# EAGLE library part IC-GENERIC-100 (library SnapEDA)
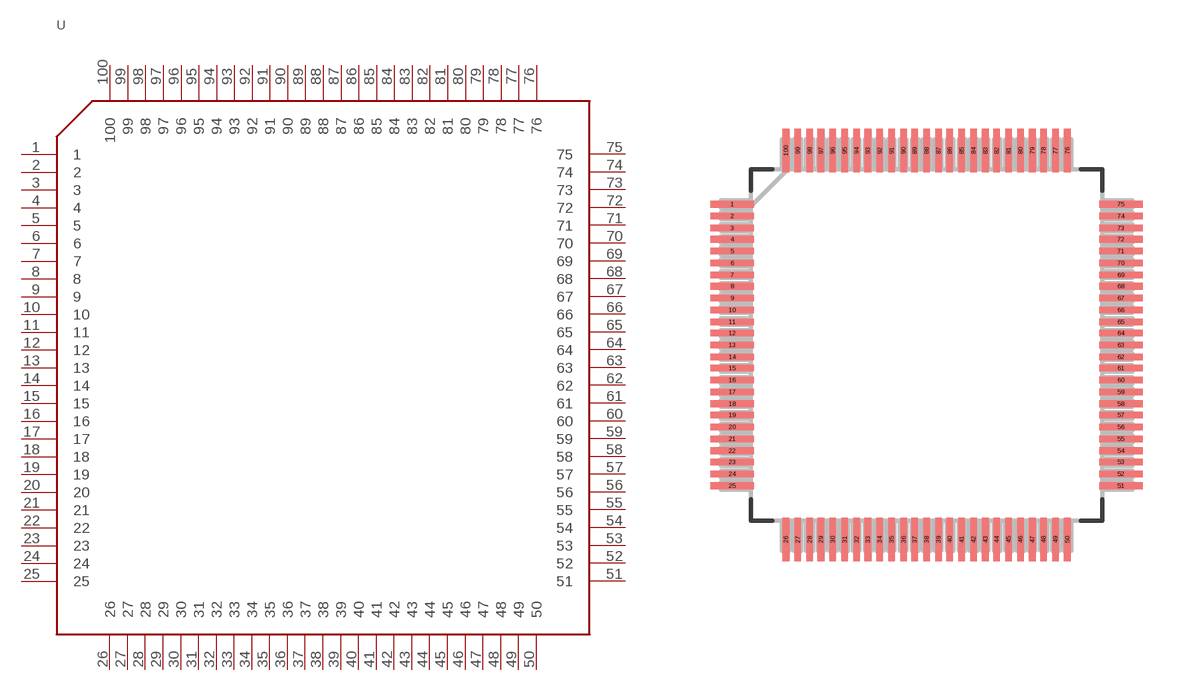
[diagram p8: symbol with the pads of QFP40P1400X1400X120-100N; footprint QFP40P1400X1400X120-100N]

Designator prefix U

## IC-GENERIC-100-TQFP  [QFP40P1400X1400X120-100N]
1  1
2  2
3  3
4  4
5  5
6  6
7  7
8  8
9  9
10  10
11  11
12  12
13  13
14  14
15  15
16  16
17  17
18  18
19  19
20  20
21  21
22  22
23  23
24  24
25  25
26  26
27  27
28  28
29  29
30  30
31  31
32  32
33  33
34  34
35  35
36  36
37  37
38  38
39  39
40  40
41  41
42  42
43  43
44  44
45  45
46  46
47  47
48  48
49  49
50  50
51  51
52  52
53  53
54  54
55  55
56  56
57  57
58  58
59  59
60  60
61  61
62  62
63  63
64  64
65  65
66  66
67  67
68  68
69  69
70  70
71  71
72  72
73  73
74  74
75  75
76  76
77  77
78  78
79  79
80  80
81  81
82  82
83  83
84  84
85  85
86  86
87  87
88  88
89  89
90  90
91  91
92  92
93  93
94  94
95  95
96  96
97  97
98  98
99  99
100  100

## Footprint QFP40P1400X1400X120-100N (pad centres in mm)
smd 1.473 x 0.229: 1 -6.629,4.801; 2 -6.629,4.394; 3 -6.629,3.988; 4 -6.629,3.607; 5 -6.629,3.2; 6 -6.629,2.794; 7 -6.629,2.388; 8 -6.629,2.007; 9 -6.629,1.6; 10 -6.629,1.194; 11 -6.629,0.787; 12 -6.629,0.406; 13 -6.629,0; 14 -6.629,-0.406; 15 -6.629,-0.787; 16 -6.629,-1.194; 17 -6.629,-1.6; 18 -6.629,-2.007; 19 -6.629,-2.388; 20 -6.629,-2.794; 21 -6.629,-3.2; 22 -6.629,-3.607; 23 -6.629,-3.988; 24 -6.629,-4.394; 25 -6.629,-4.801; 51 6.629,-4.801; 52 6.629,-4.394; 53 6.629,-3.988; 54 6.629,-3.607; 55 6.629,-3.2; 56 6.629,-2.794; 57 6.629,-2.388; 58 6.629,-2.007; 59 6.629,-1.6; 60 6.629,-1.194; 61 6.629,-0.787; 62 6.629,-0.406; 63 6.629,0; 64 6.629,0.406; 65 6.629,0.787; 66 6.629,1.194; 67 6.629,1.6; 68 6.629,2.007; 69 6.629,2.388; 70 6.629,2.794; 71 6.629,3.2; 72 6.629,3.607; 73 6.629,3.988; 74 6.629,4.394; 75 6.629,4.801
smd 0.229 x 1.473: 26 -4.801,-6.629; 27 -4.394,-6.629; 28 -3.988,-6.629; 29 -3.607,-6.629; 30 -3.2,-6.629; 31 -2.794,-6.629; 32 -2.388,-6.629; 33 -2.007,-6.629; 34 -1.6,-6.629; 35 -1.194,-6.629; 36 -0.787,-6.629; 37 -0.406,-6.629; 38 0,-6.629; 39 0.406,-6.629; 40 0.787,-6.629; 41 1.194,-6.629; 42 1.6,-6.629; 43 2.007,-6.629; 44 2.388,-6.629; 45 2.794,-6.629; 46 3.2,-6.629; 47 3.607,-6.629; 48 3.988,-6.629; 49 4.394,-6.629; 50 4.801,-6.629; 76 4.801,6.629; 77 4.394,6.629; 78 3.988,6.629; 79 3.607,6.629; 80 3.2,6.629; 81 2.794,6.629; 82 2.388,6.629; 83 2.007,6.629; 84 1.6,6.629; 85 1.194,6.629; 86 0.787,6.629; 87 0.406,6.629; 88 0,6.629; 89 -0.406,6.629; 90 -0.787,6.629; 91 -1.194,6.629; 92 -1.6,6.629; 93 -2.007,6.629; 94 -2.388,6.629; 95 -2.794,6.629; 96 -3.2,6.629; 97 -3.607,6.629; 98 -3.988,6.629; 99 -4.394,6.629; 100 -4.801,6.629